# Altium footprint library B3F-1000S.PcbLib: 1 footprints
Each footprint in its own frame and in the unit in brackets; x right, y up, seen from the top. Pads: shape width x height; smd on the part's side, far side on the other; paste and mask are expansions set on the pad; w line width, h text height; cw(c..) or ccw(c..) is an arc to the next point about the centre after c.
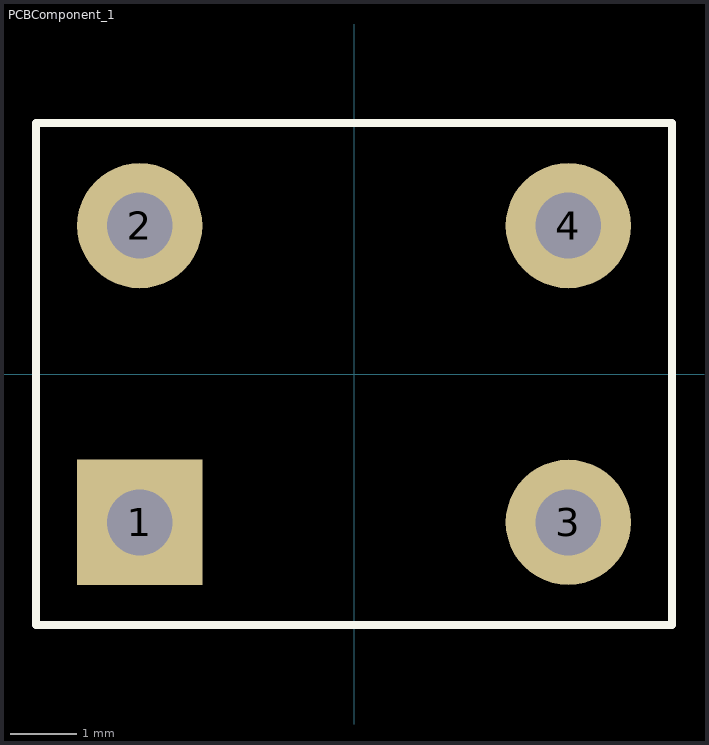
[diagram p0: the footprint, top view; thin cyan lines are the x and y axes]

## PCBComponent_1 [mm]
pads (4):
  rect 1.9x1.9 hole 1 paste-2539.97 mask+0.102: 1(-3.25,-2.25)
  round 1.9 hole 1 paste-2539.97 mask+0.102: 2(-3.25,2.25) 3(3.25,-2.25) 4(3.25,2.25)
Top Overlay:
  lines w0.12: -4.826,-3.81 4.826,-3.81 4.826,3.81 -4.826,3.81 -4.826,-3.81